# EAGLE library part TMP411AD (library MDB_HOME)
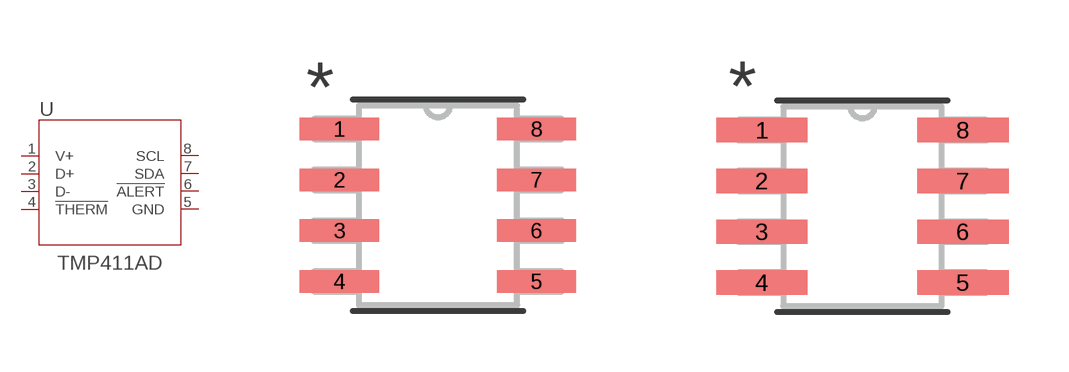
[diagram p64: symbol with the pads of D8; footprints D8, D8-M]

Designator prefix U

## TMP411AD (MANUFACTURER_PART_NUMBER: TMP411AD; VENDOR: Texas Instruments)  [D8]
1  V+  pwr
2  D+  pas
3  D-  pas
4  !THERM  pas
5  GND  pwr
6  !ALERT  pas
7  SDA  pas
8  SCL  pas

## TMP411ADD8-M (MANUFACTURER_PART_NUMBER: TMP411AD; VENDOR: Texas Instruments)  [D8-M]
Pads as for D8

## TMP411ADD8-L (DATASHEET: /mnt/wsopt/EAGLE_things/eagle_projects/gridAppsDev/plc_modem/docs/tmp411.pdf; MANUFACTURER_PART_NUMBER: TMP411AD; VENDOR: Texas Instruments)  [D8-L]
Pads as for D8

## Footprint D8 (pad centres in mm)
smd 1.981 x 0.559: 1 -2.464,1.905; 2 -2.464,0.635; 3 -2.464,-0.635; 4 -2.464,-1.905; 5 2.464,-1.905; 6 2.464,-0.635; 7 2.464,0.635; 8 2.464,1.905

## Footprint D8-M (pad centres in mm)
smd 2.286 x 0.61: 1 -2.515,1.905; 2 -2.515,0.635; 3 -2.515,-0.635; 4 -2.515,-1.905; 5 2.515,-1.905; 6 2.515,-0.635; 7 2.515,0.635; 8 2.515,1.905

## Footprint D8-L (pad centres in mm)
smd 1.676 x 0.508: 1 -2.413,1.905; 2 -2.413,0.635; 3 -2.413,-0.635; 4 -2.413,-1.905; 5 2.413,-1.905; 6 2.413,-0.635; 7 2.413,0.635; 8 2.413,1.905